# Altium schematic symbol library CON LS044_with_backlight.SchLib: 1 symbol
Pins are listed as number, name and electrical type; pins without a type are passive.

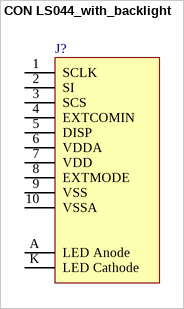
[diagram p0: symbol CON LS044_with_backlight]

## CON LS044_with_backlight
designator J?
pins: 1 SCLK, 2 SI, 3 SCS, 4 EXTCOMIN, 5 DISP, 6 VDDA, 7 VDD, 8 EXTMODE, 9 VSS, 10 VSSA, A LED Anode, K LED Cathode